# Altium schematic symbol library Diode_Diodes_DFLS1100-7_eec.SchLib: 1 symbol
Pins are listed as number, name and electrical type; pins without a type are passive.

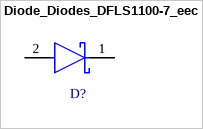
[diagram p0: symbol Diode_Diodes_DFLS1100-7_eec]

## Diode_Diodes_DFLS1100-7_eec
designator D?
DIODE SCHOTTKY 100V POWERDI123; Part Number: DFLS1100-7; Manufacturer: Diodes; Current - Average Rectified (Io): 1A; Voltage - Forward (Vf) (Max) @ If: 770mV @ 1A; helpURL: https://upverter.com/upn/revision/a54e2f16c552ac68/; ComponentLink2Description: Datasheet; Temperature: -55°C to +175°C; Package: POWERDI123; Supplier 2: Mouser; Price: 0.251806392522; Supplier 1: Digi-Key; ComponentLink1URL: https://upverter.com/upn/revision/a54e2f16c552ac68/; Supplier Part Number 2: 621-DFLS1100-7; Supplier Part Number 1: DFLS1100DICT-ND; Voltage: 100V; ComponentLink1Description: Upverter; ComponentLink2URL: http://www.diodes.com/_files/datasheets/ds30497.pdf; RoHS: TRUE; Mouser Part Number: 621-DFLS1100-7; Temperature Range High: +175°C; Digikey Description: DIODE SCHOTTKY 100V POWERDI123; Digikey Part Number: DFLS1100DICT-ND; Lead Free: yes; Temperature Range Low: -55°C; Diode Type: Schottky
footprint Diodes_DFLS1100-7_0
pins: 1 C, 2 A